# EAGLE library part THS4524 (library cdp)
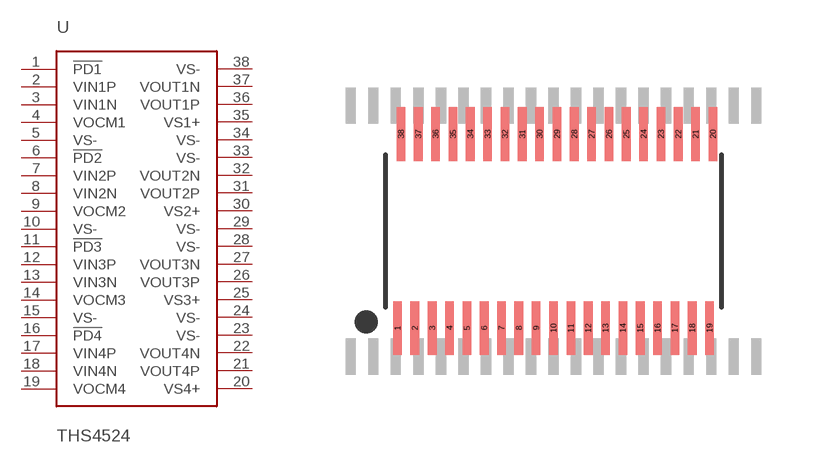
[diagram p52: symbol with the pads of TSSOP38_R-PDSO-G38-DA; footprint TSSOP38_R-PDSO-G38-DA]

Designator prefix U

## THS4524  [TSSOP38_R-PDSO-G38-DA]
1  !PD1
2  VIN1P
3  VIN1N
4  VOCM1
5  VS-
6  !PD2
7  VIN2P
8  VIN2N
9  VOCM2
10  VS-
11  !PD3
12  VIN3P
13  VIN3N
14  VOCM3
15  VS-
16  !PD4
17  VIN4P
18  VIN4N
19  VOCM4
20  VS4+
21  VOUT4P
22  VOUT4N
23  VS-
24  VS-
25  VS3+
26  VOUT3P
27  VOUT3N
28  VS-
29  VS-
30  VS2+
31  VOUT2P
32  VOUT2N
33  VS-
34  VS-
35  VS1+
36  VOUT1P
37  VOUT1N
38  VS-

## Footprint TSSOP38_R-PDSO-G38-DA (pad centres in mm)
TSSOP 38 DA (R-PDSO-G38) Auto generated by make-symbol-device-package-bsdl.ulp Rev. 28 Source: http://focus.ti.com/lit/ds/symlink/msp430f2274.pdf
smd 0.25 x 1.55: 1 -4.5,-2.8; 2 -4,-2.8; 3 -3.5,-2.8; 4 -3,-2.8; 5 -2.5,-2.8; 6 -2,-2.8; 7 -1.5,-2.8; 8 -1,-2.8; 9 -0.5,-2.8; 10 0,-2.8; 11 0.5,-2.8; 12 1,-2.8; 13 1.5,-2.8; 14 2,-2.8; 15 2.5,-2.8; 16 3,-2.8; 17 3.5,-2.8; 18 4,-2.8; 19 4.5,-2.8; 20 4.6,2.8; 21 4.1,2.8; 22 3.6,2.8; 23 3.1,2.8; 24 2.6,2.8; 25 2.1,2.8; 26 1.6,2.8; 27 1.1,2.8; 28 0.6,2.8; 29 0.1,2.8; 30 -0.4,2.8; 31 -0.9,2.8; 32 -1.4,2.8; 33 -1.9,2.8; 34 -2.4,2.8; 35 -2.9,2.8; 36 -3.4,2.8; 37 -3.9,2.8; 38 -4.4,2.8